# Altium footprint library MolexMicroFit3_4POS_2ROW_RA_TH.PcbLib: 1 footprints
Each footprint in its own frame and in the unit in brackets; x right, y up, seen from the top. Pads: shape width x height; smd on the part's side, far side on the other; paste and mask are expansions set on the pad; w line width, h text height; cw(c..) or ccw(c..) is an arc to the next point about the centre after c.
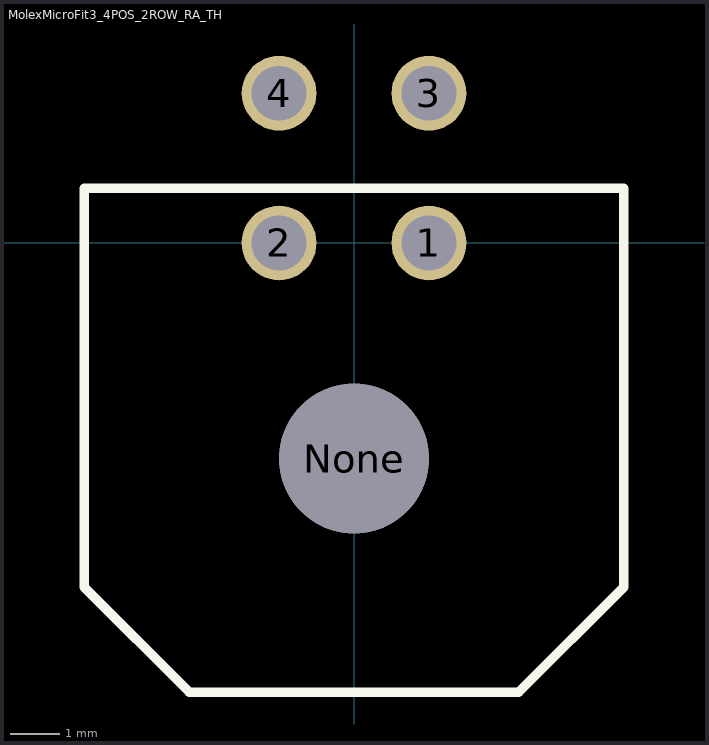
[diagram p0: the footprint, top view; thin cyan lines are the x and y axes]

## MolexMicroFit3_4POS_2ROW_RA_TH [mm]
pads (5):
  round 1.5 hole 1.1: 1(1.5,0) 2(-1.5,0) 3(1.5,3) 4(-1.5,3)
  round 3 hole 3 unplated: None(0,-4.32)
Top Overlay:
  lines w0.191: -5.4,-6.9 -5.4,1.1 5.4,1.1 5.4,-6.9 3.3,-9 -3.3,-9 -5.4,-6.9
3D body "430450401.stp": height 8.78, standoff -3.17, extent -5.075,-8.95 5.075,3.29